# EAGLE library part 1X06 (library Ai_Connectors)
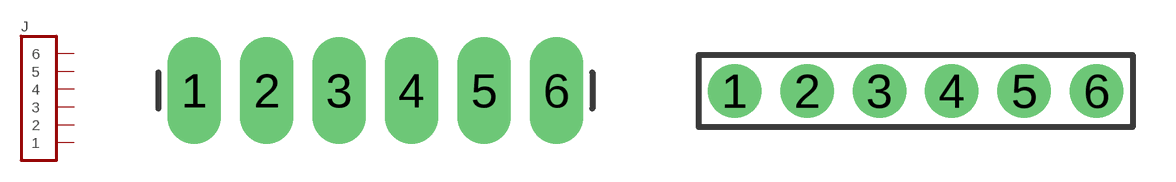
[diagram p1: symbol with the pads of 1X06-LONG; footprints 1X06-LONG, 1X06]

Designator prefix J

## 1X06LONG  [1X06-LONG]
1  1
2  2
3  3
4  4
5  5
6  6

## 1X06  [1X06]
Pads as for 1X06-LONG

## 1X06NOFIRST  [1X06-NOFIRST]
Pads as for 1X06-LONG

## 1X061X06-NFNS  [1X06-NFNS]
Pads as for 1X06-LONG

## 1X06FTDI  [1X06-CUSTOMSP]
Pads as for 1X06-LONG

## Footprint 1X06-LONG (pad centres in mm)
drill 1.118 pad 1.88 long: 1 -6.35,0; 2 -3.81,0; 3 -1.27,0; 4 1.27,0; 5 3.81,0; 6 6.35,0

## Footprint 1X06 (pad centres in mm)
drill 1.016 pad 1.88: 1 -6.35,0; 2 -3.81,0; 3 -1.27,0; 4 1.27,0; 5 3.81,0; 6 6.35,0

## Footprint 1X06-NOFIRST (pad centres in mm)
drill 1.016 pad 1.88: 1 -6.35,0; 2 -3.81,0; 3 -1.27,0; 4 1.27,0; 5 3.81,0; 6 6.35,0

## Footprint 1X06-NFNS (pad centres in mm)
drill 1.016 pad 1.88: 1 -6.35,0; 2 -3.81,0; 3 -1.27,0; 4 1.27,0; 5 3.81,0; 6 6.35,0

## Footprint 1X06-CUSTOMSP (pad centres in mm)
drill 1.016 pad 1.88: 1 -6.35,0; 2 -3.81,0; 3 -1.27,0; 4 1.27,0; 5 3.81,0; 6 6.35,0